# EAGLE library part XL8 (library connector2)
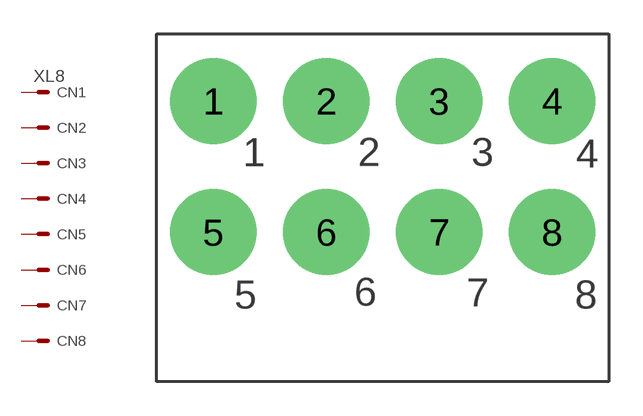
[diagram p0: symbol with the pads of XL8; footprint XL8]

Designator prefix CN; gates 1=MV 2=M 3=M 4=M 5=M 6=M 7=M 8=M

## XL8  [XL8]
1  1:S  pas
2  2:S  pas
3  3:S  pas
4  4:S  pas
5  5:S  pas
6  6:S  pas
7  7:S  pas
8  8:S  pas

## Footprint XL8 (pad centres in mm)
drill 1.5 pad 3.81 round: 1 2.5,12.42; 2 7.5,12.42; 3 12.5,12.42; 4 17.5,12.42; 5 2.5,6.62; 6 7.5,6.62; 7 12.5,6.62; 8 17.5,6.62